# Altium footprint library Passive.PcbLib: 3 footprints
Each footprint in its own frame and in the unit in brackets; x right, y up, seen from the top. Pads: shape width x height; smd on the part's side, far side on the other; paste and mask are expansions set on the pad; w line width, h text height; cw(c..) or ccw(c..) is an arc to the next point about the centre after c.
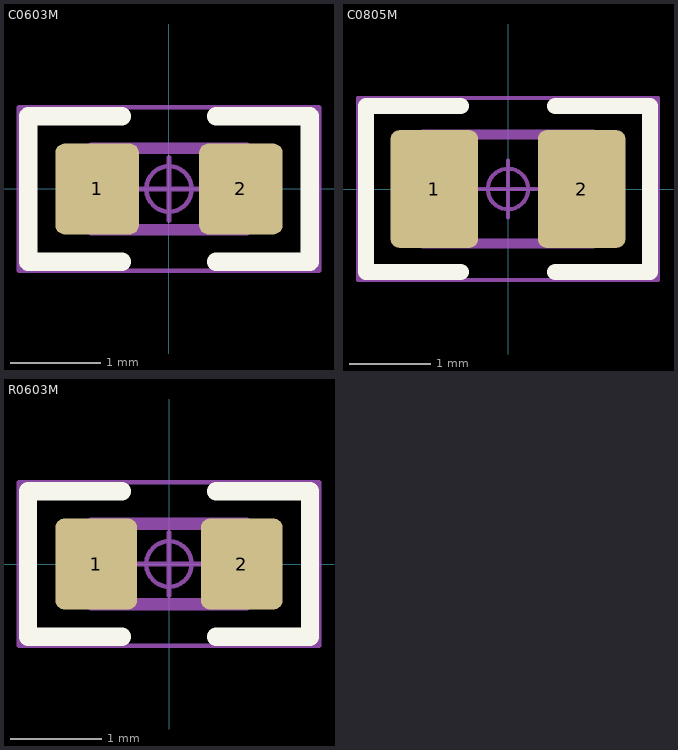
[diagram p0: the footprints below, top view; thin cyan lines are the x and y axes]

## C0603M [mm] "Capacitor, Chip; 1.60 mm L X 0.80 mm W X 0.90 mm H body"
height 0.9
pads (2):
  rrect22% 0.92x1 smd: 1(-0.791,0) 2(0.791,0)
Top Overlay:
  lines w0.2: -0.517,-0.8 -1.55,-0.8 -1.55,0.8 -0.517,0.8 ; 0.517,-0.8 1.55,-0.8 1.55,0.8 0.517,0.8
Mechanical 9:
  lines w0.12: -0.85,-0.45 0.85,-0.45 0.85,0.45 -0.85,0.45 -0.85,-0.45
  text ".Designator" at -1.126,-0.113 h0.5
Mechanical 11:
  text ".Designator" at -3.378,-0.339 h1.5
Mechanical 15:
  lines w0.05: -1.651,-0.9 1.651,-0.9 1.651,0.9 -1.651,0.9 -1.651,-0.9
Mechanical 17:
  circle w0.05: c0,0 r0.25
  lines w0.05: -0.35,0 0.35,0 ; 0,-0.35 0,0.35
Mechanical 21:
  lines w0.025: -0.8,-0.4 0.8,-0.4 ; -0.8,-0.4 -0.8,0.4 ; -0.8,-0.4 -0.8,0.4 ; -0.8,-0.4 -0.45,-0.4 -0.45,0.4 -0.8,0.4 ; -0.8,0.4 0.8,0.4 ; 0.8,-0.4 0.8,0.4 ; 0.8,-0.4 0.45,-0.4 0.45,0.4 0.8,0.4 ; 0.8,-0.4 0.8,0.4
3D body "CAPC1608X90N.step": height 0.91, standoff 0.01, extent -0.8,-0.4 0.8,0.4

## C0805M [mm] "Capacitor, Chip; 2.00 mm L X 1.25 mm W X 1.35 mm H body"
height 1.35
pads (2):
  rrect19% 1.08x1.45 smd: 1(-0.908,0) 2(0.908,0)
Top Overlay:
  lines w0.2: -0.583,-1.025 -1.75,-1.025 -1.75,1.025 -0.583,1.025 ; 0.583,-1.025 1.75,-1.025 1.75,1.025 0.583,1.025
Mechanical 9:
  lines w0.12: -1.05,-0.675 1.05,-0.675 1.05,0.675 -1.05,0.675 -1.05,-0.675
  text ".Designator" at -1.961,-0.197 h0.87
Mechanical 11:
  text ".Designator" at -3.378,-0.339 h1.5
Mechanical 15:
  lines w0.05: -1.85,-1.125 1.85,-1.125 1.85,1.125 -1.85,1.125 -1.85,-1.125
Mechanical 17:
  circle w0.05: c0,0 r0.25
  lines w0.05: -0.35,0 0.35,0 ; 0,-0.35 0,0.35
Mechanical 21:
  lines w0.025: -1,-0.625 1,-0.625 ; -1,-0.625 -1,0.625 ; -1,-0.625 -1,0.625 ; -1,-0.625 -0.55,-0.625 -0.55,0.625 -1,0.625 ; -1,0.625 1,0.625 ; 1,-0.625 1,0.625 ; 1,-0.625 0.55,-0.625 0.55,0.625 1,0.625 ; 1,-0.625 1,0.625
3D body "GRM21BR71C225KA12L.STEP": height 1.36, standoff 0.01, extent -1,-0.625 1,0.625

## R0603M [mm] "Resistor, Chip; 1.60 mm L X 0.775 mm W X 0.55 mm H body"
height 0.55
pads (2):
  rrect22% 0.9x1 smd: 1(-0.8,0) 2(0.8,0)
Top Overlay:
  lines w0.2: -0.517,-0.8 -1.55,-0.8 -1.55,0.8 -0.517,0.8 ; 0.517,-0.8 1.55,-0.8 1.55,0.8 0.517,0.8
Mechanical 9:
  lines w0.12: -0.85,-0.45 -0.85,0.45 0.85,0.45 0.85,-0.45 -0.85,-0.45
  text ".Designator" at -1.126,-0.113 h0.5
Mechanical 11:
  text ".Designator" at -3.378,-0.339 h1.5
Mechanical 15:
  lines w0.05: -1.65,-0.9 -1.65,0.9 1.65,0.9 1.65,-0.9 -1.65,-0.9
Mechanical 17:
  circle w0.05: c0,0 r0.25
  lines w0.05: -0.35,0 0.35,0 ; 0,-0.35 0,0.35
Mechanical 21:
  lines w0.025: -0.8,-0.387 -0.5,-0.387 -0.5,0.387 -0.8,0.387 ; -0.8,-0.387 -0.8,0.387 ; -0.8,-0.387 -0.8,0.387 ; -0.8,-0.387 0.8,-0.387 ; -0.8,0.387 0.8,0.387 ; 0.8,-0.387 0.8,0.387 ; 0.8,-0.387 0.5,-0.387 0.5,0.387 0.8,0.387 ; 0.8,-0.387 0.8,0.387
3D body "CRG0603F10K.step": height 0.56, standoff 0.01, extent -0.8,-0.4 0.8,0.4